# Altium footprint library Passive.PcbLib: 91 footprints (part 4 of 6)
Each footprint in its own frame and in the unit in brackets; x right, y up, seen from the top. Pads: shape width x height; smd on the part's side, far side on the other; paste and mask are expansions set on the pad; w line width, h text height; cw(c..) or ccw(c..) is an arc to the next point about the centre after c.
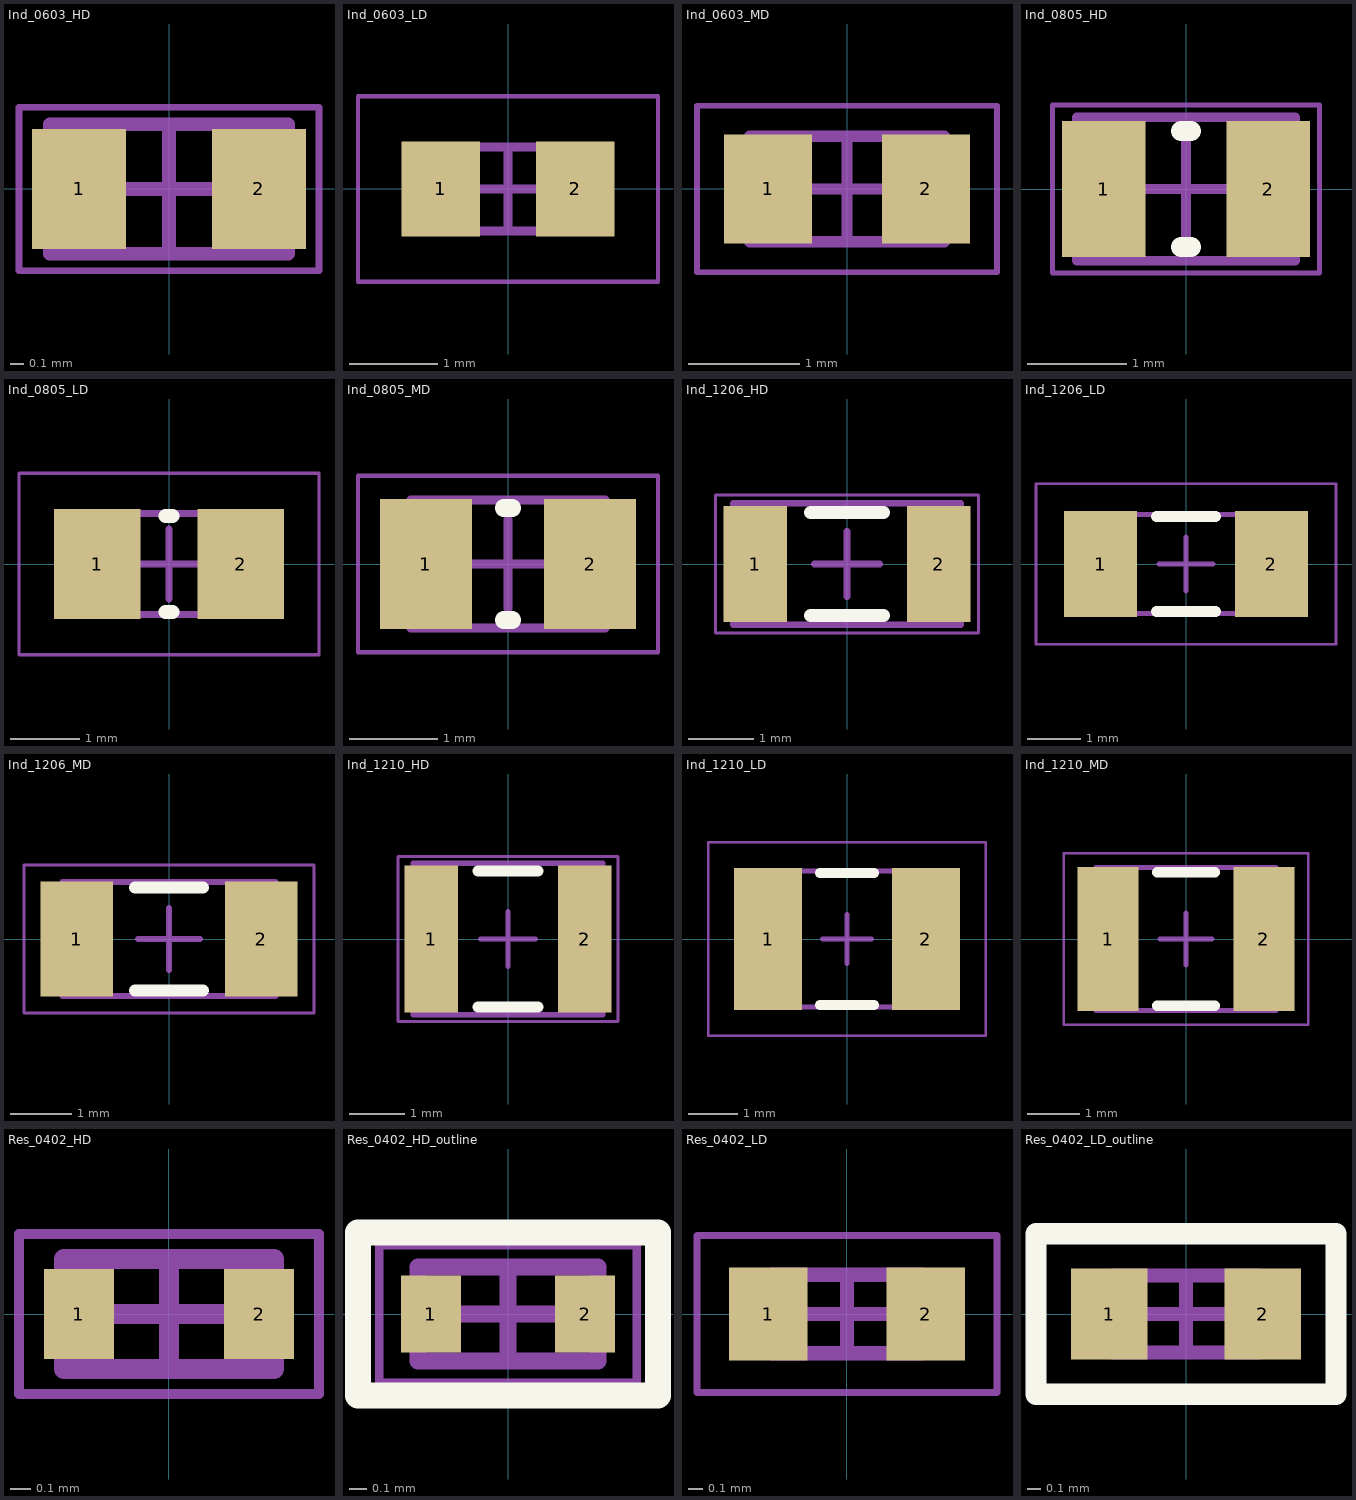
[diagram p3: the footprints below, top view; thin cyan lines are the x and y axes]

## Ind_0603_HD [mm] "Chip Inductor, 0603, IPC High Density"
height 0.92
pads (2):
  rect 0.69x0.88 smd: 1(-0.66,0) 2(0.66,0)
Mechanical 13:
  lines w0.1: -0.875,-0.475 -0.875,0.475 0.875,0.475 0.875,-0.475 -0.875,-0.475
Mechanical 15:
  lines w0.05: -1.1,-0.6 -1.1,0.6 1.1,0.6 1.1,-0.6 -1.1,-0.6
  lines w0.1: -0.475,0 0.475,0 ; 0,-0.475 0,0.475
3D body "INDC1608X09L.step": height 0.92, standoff 0, extent -0.875,-0.475 0.875,0.475

## Ind_0603_LD [mm] "Chip Inductor, 0603, IPC Low Density"
height 0.92
pads (2):
  rect 0.89x1.08 smd: 1(-0.76,0) 2(0.76,0)
Mechanical 13:
  lines w0.1: -0.875,-0.475 -0.875,0.475 0.875,0.475 0.875,-0.475 -0.875,-0.475
Mechanical 15:
  lines w0.05: -1.7,-1.05 -1.7,1.05 1.7,1.05 1.7,-1.05 -1.7,-1.05
  lines w0.1: -0.475,0 0.475,0 ; 0,-0.475 0,0.475
3D body "INDC1608X09M.step": height 0.92, standoff 0, extent -0.875,-0.475 0.875,0.475

## Ind_0603_MD [mm] "Chip Inductor, 0603, IPC Medium Density"
height 0.92
pads (2):
  rect 0.79x0.98 smd: 1(-0.71,0) 2(0.71,0)
Mechanical 13:
  lines w0.1: -0.875,-0.475 0.875,-0.475 0.875,0.475 -0.875,0.475 -0.875,-0.475
Mechanical 15:
  lines w0.05: -1.35,-0.75 1.35,-0.75 1.35,0.75 -1.35,0.75 -1.35,-0.75
  lines w0.1: -0.475,0 0.475,0 ; 0,-0.475 0,0.475
3D body "INDC1608X09N.step": height 0.92, standoff 0, extent -0.875,-0.475 0.875,0.475

## Ind_0805_HD [mm] "Chip Inductor, 0805, IPC High Density"
height 1.45
pads (2):
  rect 0.84x1.37 smd: 1(-0.83,0) 2(0.83,0)
Top Overlay:
  lines w0.2: -0.05,-0.585 0.05,-0.585 ; -0.05,0.585 0.05,0.585
Mechanical 13:
  lines w0.1: -1.1,-0.725 -1.1,0.725 1.1,0.725 1.1,-0.725 -1.1,-0.725
Mechanical 15:
  lines w0.05: -1.35,-0.85 -1.35,0.85 1.35,0.85 1.35,-0.85 -1.35,-0.85
  lines w0.1: -0.5,0 0.5,0 ; 0,-0.5 0,0.5
3D body "INDC2012X14L.step": height 1.45, standoff 0, extent -1.1,-0.725 1.1,0.725

## Ind_0805_LD [mm] "Chip Inductor, 0805, IPC Low Density"
height 1.45
pads (2):
  rect 1.24x1.57 smd: 1(-1.03,0) 2(1.03,0)
Top Overlay:
  lines w0.2: -0.05,-0.685 0.05,-0.685 ; -0.05,0.685 0.05,0.685
Mechanical 13:
  lines w0.1: -1.1,-0.725 -1.1,0.725 1.1,0.725 1.1,-0.725 -1.1,-0.725
Mechanical 15:
  lines w0.05: -2.15,-1.3 -2.15,1.3 2.15,1.3 2.15,-1.3 -2.15,-1.3
  lines w0.1: -0.5,0 0.5,0 ; 0,-0.5 0,0.5
3D body "INDC2012X14M.step": height 1.45, standoff 0, extent -1.1,-0.725 1.1,0.725

## Ind_0805_MD [mm] "Chip Inductor, 0805, IPC Medium Density"
height 1.45
pads (2):
  rect 1.04x1.47 smd: 1(-0.93,0) 2(0.93,0)
Top Overlay:
  lines w0.2: -0.05,-0.635 0.05,-0.635 ; -0.05,0.635 0.05,0.635
Mechanical 13:
  lines w0.1: -1.1,-0.725 -1.1,0.725 1.1,0.725 1.1,-0.725 -1.1,-0.725
Mechanical 15:
  lines w0.05: -1.7,-1 -1.7,1 1.7,1 1.7,-1 -1.7,-1
  lines w0.1: -0.5,0 0.5,0 ; 0,-0.5 0,0.5
3D body "INDC2012X14N.step": height 1.45, standoff 0, extent -1.1,-0.725 1.1,0.725

## Ind_1206_HD [mm] "Chip Inductor, 1206, IPC High Density"
height 1.7
pads (2):
  rect 0.97x1.77 smd: 1(-1.395,0) 2(1.395,0)
Top Overlay:
  lines w0.2: -0.55,-0.785 0.55,-0.785 ; -0.55,0.785 0.55,0.785
Mechanical 13:
  lines w0.1: -1.725,-0.925 -1.725,0.925 1.725,0.925 1.725,-0.925 -1.725,-0.925
Mechanical 15:
  lines w0.05: -2,-1.05 -2,1.05 2,1.05 2,-1.05 -2,-1.05
  lines w0.1: -0.5,0 0.5,0 ; 0,-0.5 0,0.5
3D body "INDC3216X17L.step": height 1.7, standoff 0, extent -1.725,-0.925 1.725,0.925

## Ind_1206_LD [mm] "Chip Inductor, 1206, IPC Low Density"
height 1.7
pads (2):
  rect 1.37x1.97 smd: 1(-1.595,0) 2(1.595,0)
Top Overlay:
  lines w0.2: -0.55,-0.885 0.55,-0.885 ; -0.55,0.885 0.55,0.885
Mechanical 13:
  lines w0.1: -1.725,-0.925 1.725,-0.925 1.725,0.925 -1.725,0.925 -1.725,-0.925
Mechanical 15:
  lines w0.05: -2.8,-1.5 2.8,-1.5 2.8,1.5 -2.8,1.5 -2.8,-1.5
  lines w0.1: -0.5,0 0.5,0 ; 0,-0.5 0,0.5
3D body "INDC3216X17M.step": height 1.7, standoff 0, extent -1.725,-0.925 1.725,0.925

## Ind_1206_MD [mm] "Chip Inductor, 1206, IPC Medium Density"
height 1.7
pads (2):
  rect 1.17x1.87 smd: 1(-1.495,0) 2(1.495,0)
Top Overlay:
  lines w0.2: -0.55,-0.835 0.55,-0.835 ; -0.55,0.835 0.55,0.835
Mechanical 13:
  lines w0.1: -1.725,-0.925 -1.725,0.925 1.725,0.925 1.725,-0.925 -1.725,-0.925
Mechanical 15:
  lines w0.05: -2.35,-1.2 -2.35,1.2 2.35,1.2 2.35,-1.2 -2.35,-1.2
  lines w0.1: -0.5,0 0.5,0 ; 0,-0.5 0,0.5
3D body "INDC3216X17N.step": height 1.7, standoff 0, extent -1.725,-0.925 1.725,0.925

## Ind_1210_HD [mm] "Chip Inductor, 1210, IPC High Density"
height 1.7
pads (2):
  rect 0.97x2.67 smd: 1(-1.395,0) 2(1.395,0)
Top Overlay:
  lines w0.2: -0.55,-1.235 0.55,-1.235 ; -0.55,1.235 0.55,1.235
Mechanical 13:
  lines w0.1: -1.725,-1.375 1.725,-1.375 1.725,1.375 -1.725,1.375 -1.725,-1.375
Mechanical 15:
  lines w0.05: -2,-1.5 2,-1.5 2,1.5 -2,1.5 -2,-1.5
  lines w0.1: -0.5,0 0.5,0 ; 0,-0.5 0,0.5
3D body "INDC3225X17L.step": height 1.7, standoff 0, extent -1.725,-1.375 1.725,1.375

## Ind_1210_LD [mm] "Chip Inductor, 1210, IPC Low Density"
height 1.7
pads (2):
  rect 1.37x2.87 smd: 1(-1.595,0) 2(1.595,0)
Top Overlay:
  lines w0.2: -0.55,-1.335 0.55,-1.335 ; -0.55,1.335 0.55,1.335
Mechanical 13:
  lines w0.1: -1.725,-1.375 1.725,-1.375 1.725,1.375 -1.725,1.375 -1.725,-1.375
Mechanical 15:
  lines w0.05: -2.8,-1.95 2.8,-1.95 2.8,1.95 -2.8,1.95 -2.8,-1.95
  lines w0.1: -0.5,0 0.5,0 ; 0,-0.5 0,0.5
3D body "INDC3225X17M.step": height 1.7, standoff 0, extent -1.725,-1.375 1.725,1.375

## Ind_1210_MD [mm] "Chip Inductor, 1210, IPC Medium Density"
height 1.7
pads (2):
  rect 1.17x2.77 smd: 1(-1.495,0) 2(1.495,0)
Top Overlay:
  lines w0.2: -0.55,-1.285 0.55,-1.285 ; -0.55,1.285 0.55,1.285
Mechanical 13:
  lines w0.1: -1.725,-1.375 1.725,-1.375 1.725,1.375 -1.725,1.375 -1.725,-1.375
Mechanical 15:
  lines w0.05: -2.35,-1.65 2.35,-1.65 2.35,1.65 -2.35,1.65 -2.35,-1.65
  lines w0.1: -0.5,0 0.5,0 ; 0,-0.5 0,0.5
3D body "INDC3225X17N.step": height 1.7, standoff 0, extent -1.725,-1.375 1.725,1.375

## Res_0402_HD [mm] "Chip Resistor, 0402, IPC High Density"
height 0.4
pads (2):
  rect 0.35x0.45 smd: 1(-0.45,0) 2(0.45,0)
Mechanical 13:
  lines w0.1: -0.525,-0.275 -0.525,0.275 0.525,0.275 0.525,-0.275 -0.525,-0.275
Mechanical 15:
  lines w0.05: -0.75,-0.4 -0.75,0.4 0.75,0.4 0.75,-0.4 -0.75,-0.4
  lines w0.1: -0.275,0 0.275,0 ; 0,-0.275 0,0.275
3D body "RESC1005X04L.step": height 0.4, standoff 0, extent -0.525,-0.275 0.525,0.275

## Res_0402_HD_outline [mm] "Chip Resistor, 0402, IPC High Density with outline"
height 0.4
pads (2):
  rect 0.35x0.45 smd: 1(-0.45,0) 2(0.45,0)
Top Overlay:
  lines w0.152: -0.875,-0.475 0.875,-0.475 0.875,0.475 -0.875,0.475 -0.875,-0.475
Mechanical 13:
  lines w0.1: -0.525,-0.275 0.525,-0.275 0.525,0.275 -0.525,0.275 -0.525,-0.275
Mechanical 15:
  lines w0.05: -0.75,-0.4 0.75,-0.4 0.75,0.4 -0.75,0.4 -0.75,-0.4
  lines w0.1: -0.275,0 0.275,0 ; 0,-0.275 0,0.275
3D body "RESC1005X04L.step": height 0.4, standoff 0, extent -0.525,-0.275 0.525,0.275

## Res_0402_LD [mm] "Chip Resistor, 0402, IPC Low Density"
height 0.4
pads (2):
  rect 0.55x0.65 smd: 1(-0.55,0) 2(0.55,0)
Mechanical 13:
  lines w0.1: -0.525,-0.275 -0.525,0.275 0.525,0.275 0.525,-0.275 -0.525,-0.275
Mechanical 15:
  lines w0.05: -1.05,-0.55 -1.05,0.55 1.05,0.55 1.05,-0.55 -1.05,-0.55
  lines w0.1: -0.275,0 0.275,0 ; 0,-0.275 0,0.275
3D body "RESC1005X04M.step": height 0.4, standoff 0, extent -0.525,-0.275 0.525,0.275

## Res_0402_LD_outline [mm] "Chip Resistor, 0402, IPC Low Density with outline"
height 0.4
pads (2):
  rect 0.55x0.65 smd: 1(-0.55,0) 2(0.55,0)
Top Overlay:
  lines w0.152: -1.075,-0.575 -1.075,0.575 1.075,0.575 1.075,-0.575 -1.075,-0.575
Mechanical 13:
  lines w0.1: -0.525,-0.275 -0.525,0.275 0.525,0.275 0.525,-0.275 -0.525,-0.275
Mechanical 15:
  lines w0.05: -1.05,-0.55 -1.05,0.55 1.05,0.55 1.05,-0.55 -1.05,-0.55
  lines w0.1: -0.275,0 0.275,0 ; 0,-0.275 0,0.275
3D body "RESC1005X04M.step": height 0.4, standoff 0, extent -0.525,-0.275 0.525,0.275